# Altium schematic symbol library Schlib1.SchLib: 5 symbols
Pins are listed as number, name and electrical type; pins without a type are passive.

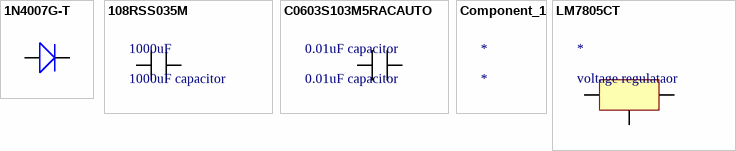
[diagram p0: symbols 1N4007G-T to LM7805CT]

## 1N4007G-T
designator Diode  (value not drawn)
Diode Standard 1000V (1kV) 1A Through Hole DO-41; Manufacturer: Diodes; Manufacturer Part Number: 1N4007G-T; Max Reverse Current: 5uA; Max Surge Current: 30A; Element Configuration: Single; Capacitance: 8pF; Recovery Time: 2us; Forward Voltage: 1V; Supplier 1: Digi-Key; RoHS: Yes; Category: Rectifier Diodes; Stock 1: 770000; Pricing 1: 5000=0.04410, 10000=0.03749, 25000=0.03528, 50000=0.03308, 125000=0.02866 (USD); Mount: Through Hole; Case/Package: DO-41; Number of Pins: 2; Weight: 0.010582oz; Min Operating Temperature: -65°C; Max Operating Temperature: 175°C; Packaging: Tape and Reel; Package Quantity: 5000; Polarity: Standard; Voltage Rating (DC): 1kV; Current Rating: 1A; Output Current: 1A; Forward Current: 1A; Reverse Voltage (DC): 1kV; Average Rectified Current: 1A; Reverse Recovery Time: 2us; Max Repetitive Reverse Voltage (Vrrm): 1kV; Peak Non-Repetitive Surge Current: 30A; Max Reverse Voltage (DC): 1kV; Series: -; Length: 4.7mm; Width: 2.71mm; Height: 2.71mm; Radiation Hardening: No; Lead Free: Lead Free; RoHS Compliant: Yes; ComponentLink1URL: https://datasheet.ciiva.com/36525/1537942-36525995.pdf?src-supplier=Jameco; ComponentLink1Description: https://datasheet.ciiva.com/36525/1537942-36525995.pdf?src-supplier=Jameco; ComponentLink2URL: https://datasheet.ciiva.com/16395/ds29002-16395514.pdf?src-supplier=Future+Electronics; ComponentLink2Description: https://datasheet.ciiva.com/16395/ds29002-16395514.pdf?src-supplier=Future+Electronics; ComponentLink3URL: https://datasheet.ciiva.com/15219/getdatasheetpartid-213960-15219547.pdf?src-supplier=Verical; ComponentLink3Description: https://datasheet.ciiva.com/15219/getdatasheetpartid-213960-15219547.pdf?src-supplier=Verical; ComponentLink4URL: https://datasheet.ciiva.com/912/ds29002-912230.pdf?src-supplier=Digi-Key; ComponentLink4Description: https://datasheet.ciiva.com/912/ds29002-912230.pdf?src-supplier=Digi-Key; Supplier Part Number 1: 1N4007GDITR-ND
pins: 1, 2

## 108RSS035M
designator 1000uF, comment 1000uF capacitor
1000 µF 35 V Aluminum Electrolytic Capacitors Radial, Can 199mOhm @ 120Hz 1000 Hrs @ 85°C; Manufacturer: CDE Illinois Capacitor; Manufacturer Part Number: 108RSS035M; Capacitance: 1mF; Voltage Rating: 35V; Ripple Current: 1A; Tolerance: 20%; ESR (Equivalent Series Resistance): 199mR; Polarity: Polar; Life (Hours): 1000Hour; Supplier 1: Newark; RoHS: Yes; Description: Aluminum Electrolytic capacitors; Category: Aluminum Electrolytic Capacitors; Stock 1: 300; Pricing 1: 1=1.50000, 10=1.07000, 25=0.95900, 50=0.84800, 100=0.72600, 500=0.62200, 1000=0.55400, 2500=0.51100 (USD); Mount: Through Hole,PCB; Case/Package: Radial; Min Operating Temperature: -40°C; Max Operating Temperature: 85°C; Voltage Rating (DC): 35V; Package Quantity: 100; Packaging: Bulk; Series: RSS; Termination: Through Hole; Lead Pitch: 0.295inch; Height - Seated (Max): 0.63inch; Lead Free: Lead Free; RoHS Compliant: Yes; ComponentLink1URL: https://datasheet.ciiva.com/16378/rss-16378848.pdf?src-supplier=Future+Electronics; ComponentLink1Description: https://datasheet.ciiva.com/16378/rss-16378848.pdf?src-supplier=Future+Electronics; Supplier Part Number 1: 50M3073
pins: 1, 2

## C0603S103M5RACAUTO
designator 0.01uF capacitor, comment 0.01uF capacitor
10000 pF ±20% 50V Ceramic Capacitor X7R 0603 (1608 Metric); Manufacturer: KEMET; Manufacturer Part Number: C0603S103M5RACAUTO; Description: Cap Ceramic 0.01uF 50V X7R 20% SMD 0603 125°C Paper T/R; Supplier 1: Digi-Key; RoHS: Yes; Category: Ceramic Capacitors; Stock 1: 18537; Pricing 1: 1=0.32000, 10=0.22100, 50=0.15480, 100=0.13270, 500=0.09954, 1000=0.08405 (USD); RoHS Compliant: Yes; Supplier Part Number 1: 399-C0603S103M5RACAUTOCT-ND
pins: 1, 2

## Component_1
designator *

## LM7805CT
designator *, comment voltage regulataor
IC Reg Linear Fixed Pos Std Reg; Manufacturer: Rochester Electronics; Manufacturer Part Number: LM7805CT; Supplier 1: Digi-Key; Category: Voltage Regulators - Linear; Supplier Part Number 1: 2156-LM7805CT-ND
pins: 1, 2, 3